# EAGLE library part RN4020 (library HadleyResearch)
RN4020 Microchip Bluetooth Low Energy wireless module. More Information: Link <http://www.microchip.com/wwwproducts/en/RN4020>
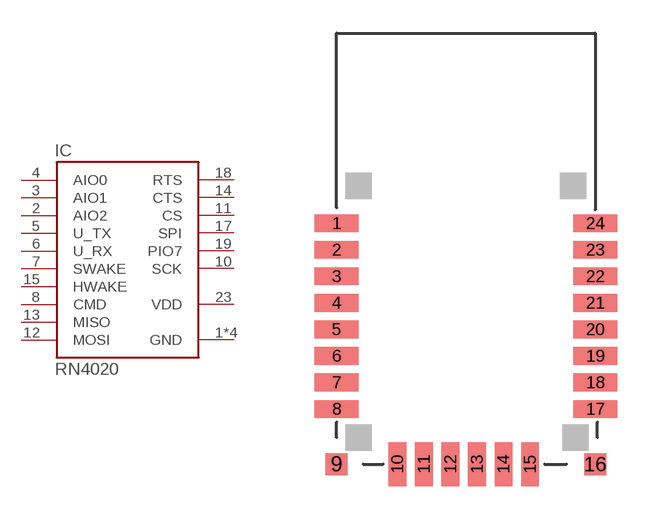
[diagram p1: symbol with the pads of CAST24; footprint CAST24]

Designator prefix IC

## RN4020  [CAST24]
1  GND  pwr
2  AIO2
3  AIO1
4  AIO0
5  U_TX
6  U_RX
7  SWAKE
8  CMD
9  GND  pwr
10  SCK
11  CS
12  MOSI
13  MISO
14  CTS
15  HWAKE
16  GND  pwr
17  SPI
18  RTS
19  PIO7
23  VDD  pwr
24  GND  pwr

## Footprint CAST24 (pad centres in mm)
24-pin castellated PCB design, used by RN4020
smd 2 x 0.8: 1 -5.715,3.915; 2 -5.715,2.715; 3 -5.715,1.515; 4 -5.715,0.315; 5 -5.715,-0.885; 6 -5.715,-2.085; 7 -5.715,-3.285; 8 -5.715,-4.485; 17 5.985,-4.485; 18 5.985,-3.285; 19 5.985,-2.085; 20 5.985,-0.885; 21 5.985,0.315; 22 5.985,1.515; 23 5.985,2.715; 24 5.985,3.915
smd 1 x 1: 9 -5.715,-6.985; 16 5.985,-6.985
smd 0.8 x 2: 10 -2.965,-6.985; 11 -1.765,-6.985; 12 -0.565,-6.985; 13 0.635,-6.985; 14 1.835,-6.985; 15 3.035,-6.985